# EAGLE library part SLIDER_SM10001NKA0X-HA1 (library Motor.Fader.all.Parts)
Behringer X-Touch Motor-Fader MF100T
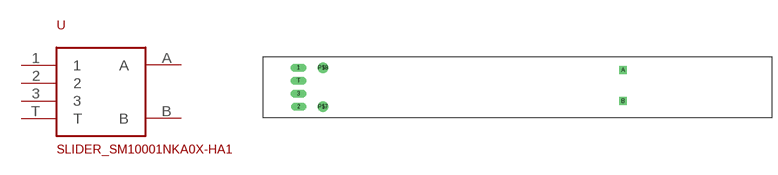
[diagram p3: symbol with the pads of SLIDER_SM10001NKA0X-HA1; footprint SLIDER_SM10001NKA0X-HA1]

Designator prefix -

## SLIDER_SM10001NKA0X-HA1  [SLIDER_SM10001NKA0X-HA1]
1  1
2  2
3  3
A  A
B  B
T  T

## Footprint SLIDER_SM10001NKA0X-HA1 (pad centres in mm)
drill 1.5 long: 1 0,0; 2 0.05,-11.25; 3 0,-7.5; T 0,-3.75
drill 1.5 square: A 93.291,-0.703; B 93.291,-9.61
drill 2: P$7 7.032,-11.251; P$8 7.032,0